# EAGLE library part TYCO_A1080 (library tyco_A1080)
tyco A1080
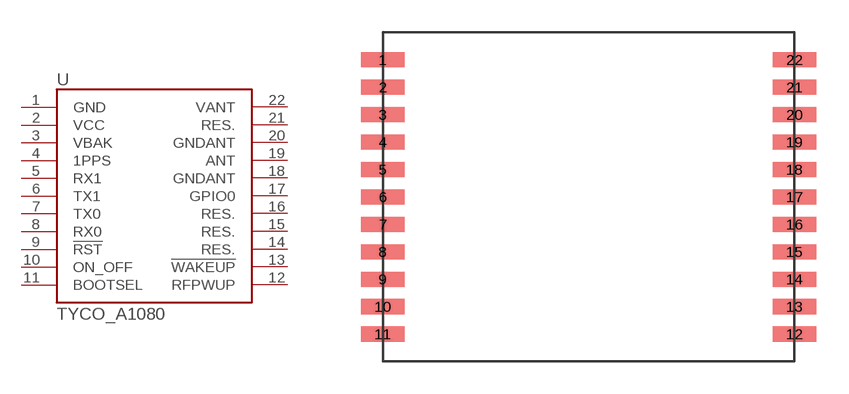
[diagram p0: symbol with the pads of A1080; footprint A1080]

Designator prefix -

## TYCO_A1080  [A1080]
1  GND
2  VCC
3  VBAK
4  1PPS
5  RX1
6  TX1
7  TX0
8  RX0
9  !RST
10  ON_OFF
11  BOOTSEL
12  RFPWUP
13  !WAKEUP
14  RES.
15  RES.
16  RES.
17  GPIO0
18  GNDANT
19  ANT
20  GNDANT
21  RES.
22  VANT

## Footprint A1080 (pad centres in mm)
tyco A1080
smd 2 x 0.7: 1 0,0; 2 0,-1.27; 3 0,-2.54; 4 0,-3.81; 5 0,-5.08; 6 0,-6.35; 7 0,-7.62; 8 0,-8.89; 9 0,-10.16; 10 0,-11.43; 11 0,-12.7; 12 19.05,-12.7; 13 19.05,-11.43; 14 19.05,-10.16; 15 19.05,-8.89; 16 19.05,-7.62; 17 19.05,-6.35; 18 19.05,-5.08; 19 19.05,-3.81; 20 19.05,-2.54; 21 19.05,-1.27; 22 19.05,0